# Altium footprint library SKSLLBE010.PcbLib: 1 footprints
Each footprint in its own frame and in the unit in brackets; x right, y up, seen from the top. Pads: shape width x height; smd on the part's side, far side on the other; paste and mask are expansions set on the pad; w line width, h text height; cw(c..) or ccw(c..) is an arc to the next point about the centre after c.
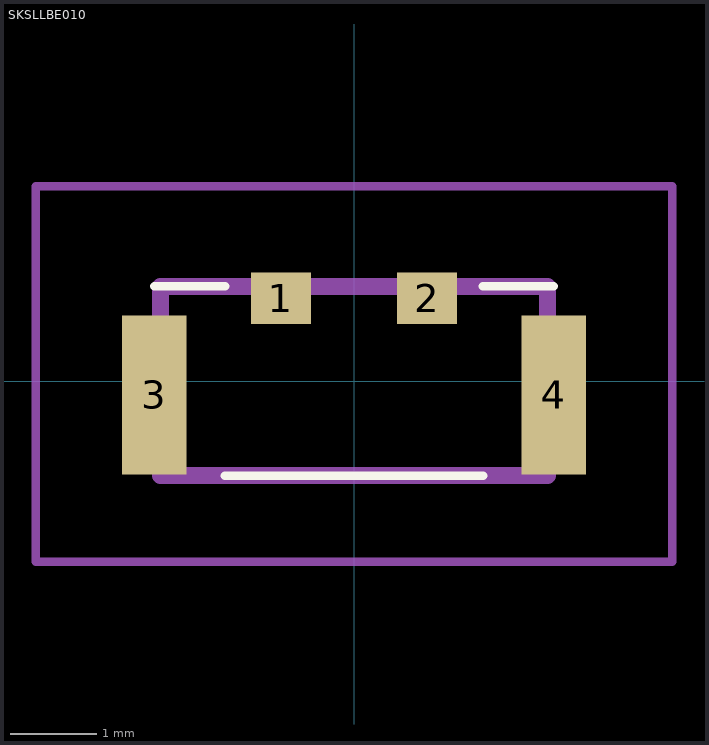
[diagram p0: the footprint, top view; thin cyan lines are the x and y axes]

## SKSLLBE010 [mm]
pads (4):
  rect 0.7x0.6 smd: 1(-0.85,0.963) 2(0.85,0.963)
  rect 0.75x1.85 smd: 3(-2.325,-0.162) 4(2.325,-0.162)
L26-Silk Screen Top (Multiple PADS layers...):
  lines w0.1: -2.325,1.1 -1.5,1.1 ; -1.5,-1.1 1.5,-1.1 ; 1.5,1.1 2.325,1.1
L15 (Multiple PADS layers...):
  lines w0.2: -2.25,-1.1 -2.25,1.1 2.25,1.1 2.25,-1.1 -2.25,-1.1
L20:
  lines w0.1: -3.7,-2.1 -3.7,2.263 3.7,2.263 3.7,-2.1 -3.7,-2.1
3D body "3D_SKSLLC.STEP": height 1.64, standoff -0.58, extent -2.25,-1.819 2.25,1.181